# Altium footprint library PcbLib1_Source_IoT.PcbLib: 58 footprints (part 4 of 4)
Each footprint in its own frame and in the unit in brackets; x right, y up, seen from the top. Pads: shape width x height; smd on the part's side, far side on the other; paste and mask are expansions set on the pad; w line width, h text height; cw(c..) or ccw(c..) is an arc to the next point about the centre after c.
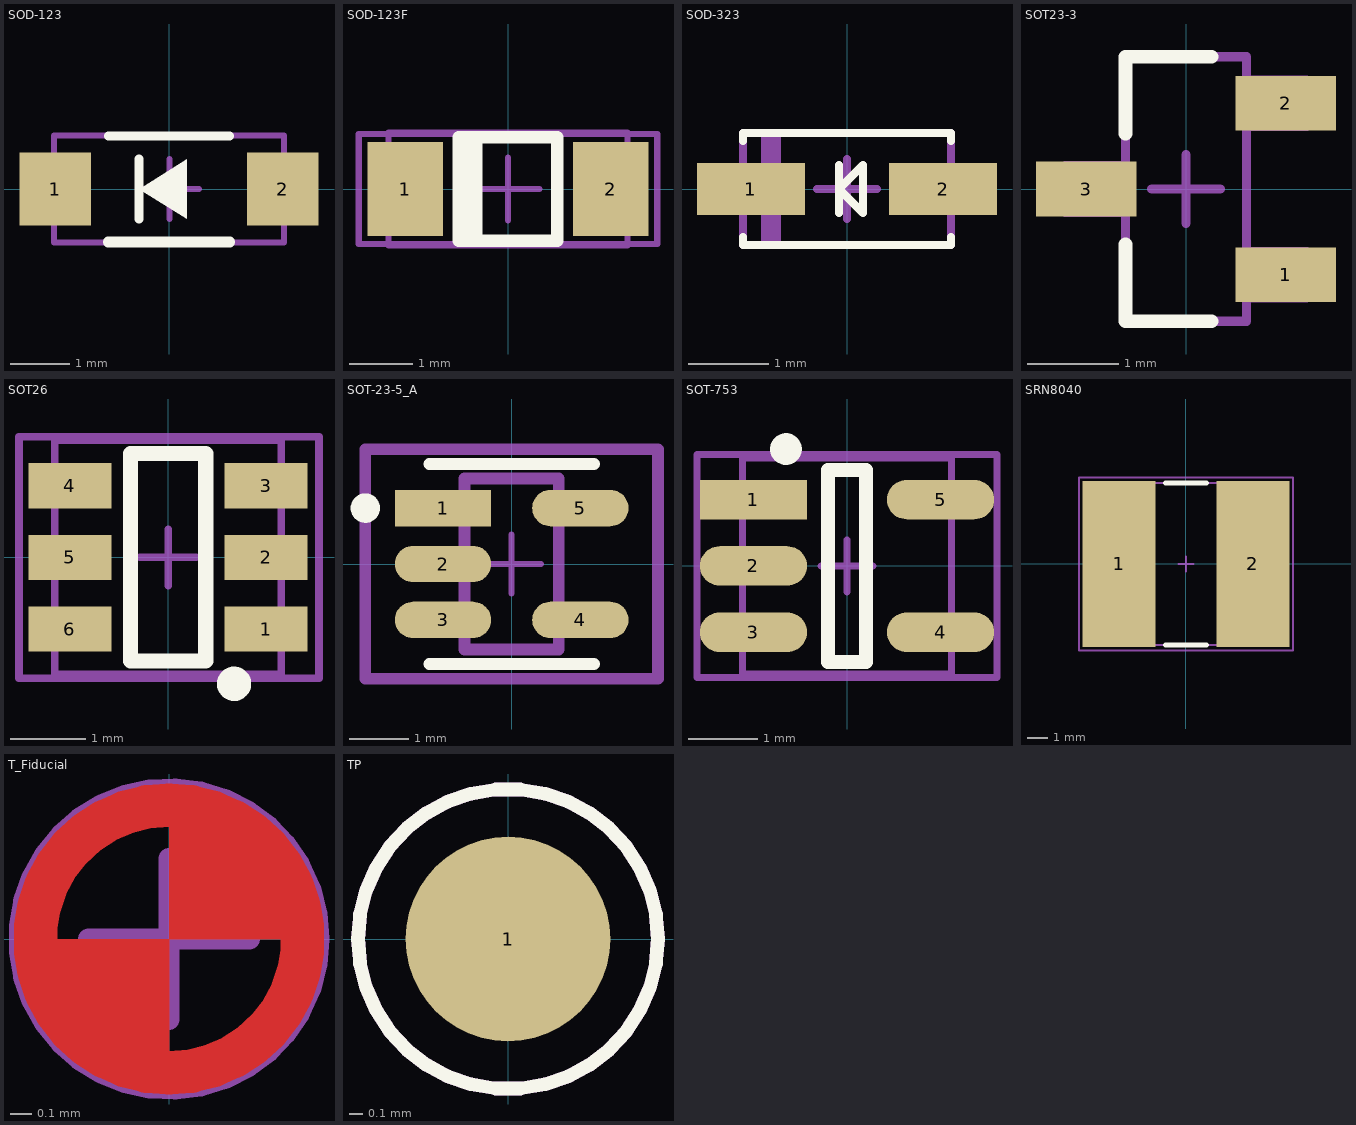
[diagram p3: the footprints below, top view; thin cyan lines are the x and y axes]

## SOD-123 [mm] "On Semi recommended land pattern"
height 1.35
pads (2):
  rect 1.2x1.22 smd: 1(-1.905,0) 2(1.905,0)
Top Overlay:
  region: 0.3,-0.5 0.3,0.5 -0.5,0
  lines w0.152: -1.016,0.889 1.016,0.889 ; -0.5,-0.5 -0.5,0.5
  lines w0.178: -1.016,-0.889 1.016,-0.889
Top Assembly:
  lines w0.1: -1.932,-0.9 -1.932,0.9 1.932,0.9 1.932,-0.9 -1.932,-0.9
  text "'.Designator'" at -1.121,-0.43 h1.5
Mechanical:
  lines w0.1: -0.495,0 0.505,0 ; 0.005,-0.5 0.005,0.5
3D body "SOD-123.stp": height 1.35, standoff 0, extent -1.932,-0.9 1.932,0.9

## SOD-123F [mm]
pads (2):
  rect 1.2x1.5 smd: 1(-1.635,0) 2(1.635,0)
Top Overlay:
  lines w0.2: -0.655,-0.825 -0.655,0.825 ; -0.505,-0.825 -0.505,0.825 ; -0.78,-0.825 0.78,-0.825 0.78,0.825 -0.78,0.825 -0.78,-0.825
Top Assembly:
  lines w0.1: -1.9,-0.9 -1.9,0.9 1.9,0.9 1.9,-0.9 -1.9,-0.9
  text "'.Designator'" at -1.629,-0.43 h1.5
Mechanical:
  lines w0.1: -0.5,0 0.5,0 ; 0,-0.5 0,0.5 ; -2.375,-0.875 2.375,-0.875 2.375,0.875 -2.375,0.875 -2.375,-0.875
3D body "User Library-SOD-123F.SLDPRT": height 1.02, standoff 0, extent -1.9,-0.9 1.9,0.9

## SOD-323 [mm]
pads (2):
  rect 1.35x0.65 smd: 1(-1.2,0) 2(1.2,0)
Top Overlay:
  lines w0.1: -1.3,-0.6 -1.3,-0.7 1.3,-0.7 1.3,-0.6 ; -1.3,0.6 -1.3,0.7 1.3,0.7 1.3,0.6 ; -0.1,-0.3 -0.1,0 ; -0.1,0.3 -0.1,0 ; -0.1,0 0.2,-0.3 0.2,0.3 -0.1,0
Top Assembly:
  rectangle: -1.075,-0.7 -0.825,0.7
  lines w0.1: -1.3,-0.7 -1.3,0.7 1.3,0.7 1.3,-0.7 -1.3,-0.7
  text "'.Designator'" at -0.675,-0.371 h1.2
Mechanical:
  lines w0.1: -0.375,0 0.375,0 ; 0,-0.375 0,0.375 ; -1.3,-0.7 1.3,-0.7 1.3,0.7 -1.3,0.7 -1.3,-0.7
3D body "User Library-SOD-323.step": height 1.1, standoff 0, extent -1.3,-0.675 1.3,0.675

## SOT23-3 [mm]
pads (3):
  rect 1.1x0.6 smd: 1(1.092,-0.94) 2(1.092,0.94) 3(-1.092,0)
Top Overlay:
  lines w0.152: -0.66,-0.61 -0.66,-1.448 0.279,-1.448 ; -0.66,0.61 -0.66,1.448 0.279,1.448
Top Assembly:
  lines w0.1: -1.321,-0.254 -0.66,-0.254 -0.66,0.254 -1.321,0.254 -1.321,-0.254 ; -0.66,-1.448 0.66,-1.448 0.66,1.448 -0.66,1.448 -0.66,-1.448 ; 0.66,-1.194 1.321,-1.194 1.321,-0.686 0.66,-0.686 0.66,-1.194 ; 0.66,0.686 1.321,0.686 1.321,1.194 0.66,1.194 0.66,0.686
  text "'.Designator'" at 0.35,-0.925 h1.2
Mechanical:
  lines w0.1: -0.375,0 0.375,0 ; 0,-0.375 0,0.375 ; -1.321,-0.254 -1.321,0.254 -0.66,0.254 -0.66,-0.254 -1.321,-0.254 ; -0.66,-1.448 -0.66,1.448 0.66,1.448 0.66,-1.448 -0.66,-1.448 ; 0.66,-1.194 0.66,-0.686 1.321,-0.686 1.321,-1.194 0.66,-1.194 ; 0.66,0.686 0.66,1.194 1.321,1.194 1.321,0.686 0.66,0.686
3D body "LM3480IM3-12.STEP": height 1.12, standoff 0, extent -1.185,-1.46 1.185,1.46

## SOT26 [mm]
pads (6):
  rect 1.1x0.6 smd: 1(1.3,-0.95) 2(1.3,0) 3(1.3,0.95) 4(-1.3,0.95) 5(-1.3,0) 6(-1.3,-0.95)
Top Overlay:
  circle w0.254: c0.875,-1.675 r0.1
  lines w0.2: -0.5,-1.375 -0.5,1.375 0.5,1.375 0.5,-1.375 -0.5,-1.375
Top Assembly:
  lines w0.1: -1.5,-1.55 -1.5,1.55 1.5,1.55 1.5,-1.55 -1.5,-1.55
  text "'.Designator'" at 0.35,-0.85 h1.2
Mechanical:
  lines w0.1: -0.375,0 0.375,0 ; 0,-0.375 0,0.375 ; -1.975,-1.6 2,-1.6 2,1.6 -1.975,1.6 -1.975,-1.6
3D body "SOT26_DIO.step": height 1.4, standoff 0, extent -1.499,-1.549 1.499,1.549

## SOT-23-5_A [mil]
pads (5):
  rect 64.5x24.33 smd paste+0 mask+0: 1(-45.91,37.4)
  rrect100% 64.5x24.33 smd paste+0 mask+0: 2(-45.91,0) 3(-45.91,-37.4) 4(45.91,-37.4) 5(45.91,37.4)
Top Overlay:
  circle w9.84: c-97.85,37.4 r4.92
  lines w7.87: -55.12,-66.93 55.12,-66.93 ; -55.12,66.93 55.12,66.93
Top Assembly:
  lines w7.87: -97.85,-76.77 -97.85,76.77 97.85,76.77 97.85,-76.77 -97.85,-76.77
  text "'.Designator'" at 0,7.39 h39.37
Top Courtyard:
  lines w7.87: -97.85,-76.77 -97.85,76.77 97.85,76.77 97.85,-76.77 -97.85,-76.77
Top 3D Body:
  lines w7.87: -31.5,-57.09 -31.5,57.09 31.5,57.09 31.5,-57.09 -31.5,-57.09
Top Component Center:
  lines w3.94: -19.68,0 19.68,0 ; 0,-19.68 0,19.68
3D body "ALSRobot-SOT23-5R.step": height 51.18, standoff 0, extent -59.06,-59.06 59.06,59.06

## SOT-753 [mm]
pads (5):
  rect 1.54x0.566 smd: 1(-1.341,0.95)
  rrect100% 1.54x0.566 smd: 2(-1.341,0) 3(-1.341,-0.95) 4(1.341,-0.95) 5(1.341,0.95)
Top Overlay:
  circle w0.254: c-0.875,1.675 r0.1
  lines w0.2: -0.275,-1.375 0.275,-1.375 0.275,1.375 -0.275,1.375 -0.275,-1.375
Top Assembly:
  lines w0.1: -1.5,-1.55 -1.5,1.55 1.5,1.55 1.5,-1.55 -1.5,-1.55
  text "'.Designator'" at -0.35,0.85 h1.2
Mechanical:
  lines w0.1: -0.375,0 0.375,0 ; 0,-0.375 0,0.375 ; -2.15,-1.6 -2.15,1.6 2.15,1.6 2.15,-1.6 -2.15,-1.6
3D body "User Library-SOT-23-5.STEP": height 1.46, standoff 0, extent -1.5,-1.475 1.5,1.525

## SRN8040 [mm]
pads (2):
  rect 3.6x8.2 smd: 1(-3.3,0) 2(3.3,0)
Top Overlay:
  lines w0.254: -1,-4 1,-4 ; -1,4 1,4
Top Assembly:
  lines w0.1: -4.025,-4 4.025,-4 4.025,4 -4.025,4 -4.025,-4
  text "'.Designator'" at -1.425,-0.55 h2
Mechanical:
  lines w0.1: -0.375,0 0.375,0 ; 0,-0.375 0,0.375 ; -5.275,-4.275 5.275,-4.275 5.275,4.275 -5.275,4.275 -5.275,-4.275
3D body "User Library-Inductor SRN8040 Series.step": height -1.8, standoff -5.8, extent -4.009,-4 4.009,4

## T_Fiducial [mm] "Fiducial"
Top Layer:
  region: 0,0 0,-0.625 -0.124,-0.625 -0.354,-0.53 -0.53,-0.354 -0.625,-0.124 -0.625,0
  region: 0,0 0,0.625 0.124,0.625 0.354,0.53 0.53,0.354 0.625,0.124 0.625,0
  lines w0.203: 0,-0.625 ccw(c0,0) 0,0.625 ccw(c0,0) 0,-0.625
Top Solder:
  circle w0.203: c0,0 r0.625
  region: 0,-0.625 -0.124,-0.625 -0.354,-0.53 -0.53,-0.354 -0.625,-0.124 -0.625,0 -0.625,0.124 -0.53,0.354 -0.354,0.53 -0.124,0.625 0,0.625 0.124,0.625 0.354,0.53 0.53,0.354 0.625,0.124 0.625,0 0.625,-0.124 0.53,-0.354 0.354,-0.53 0.124,-0.625
Mechanical:
  circle w0.1: c0,0 r0.7
  lines w0.1: -0.375,0 0.375,0 ; 0,-0.375 0,0.375

## TP [mm]
pads (1):
  round 1.5 smd mask+0.2: 1(0,0)
Top Overlay:
  circle w0.1: c0,0 r1.1
Top Assembly:
  circle w0.1: c0,0 r0.65
Mechanical:
  circle w0.1: c0,0 r1.1
  lines w0.1: -0.375,0 0.375,0 ; 0,-0.375 0,0.375